# EAGLE library part NRF24L01-AS01-ML01IPX (library hqc-communication)
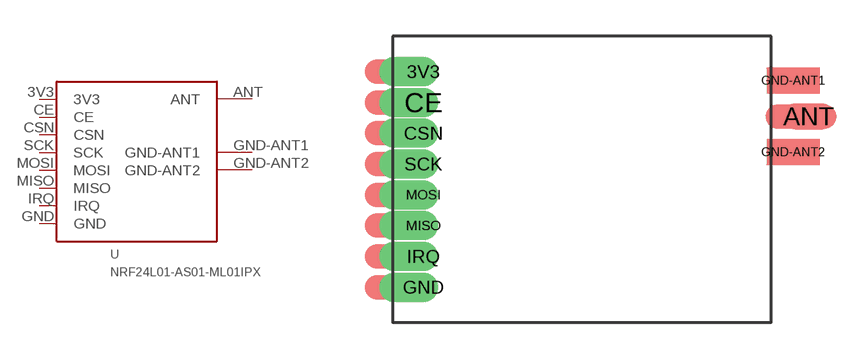
[diagram p1: symbol with the pads of AS01-ML01IPX; footprint AS01-ML01IPX]

Designator prefix -

## NRF24L01-AS01-ML01IPX  [AS01-ML01IPX]
3V3  3V3  pwr
ANT  ANT  out
CE  CE  in
CSN  CSN  in
GND  GND  pwr
GND-ANT1  GND-ANT1  pwr
GND-ANT2  GND-ANT2  pwr
IRQ  IRQ  out
MISO  MISO  out
MOSI  MOSI  in
SCK  SCK  in

## Footprint AS01-ML01IPX (pad centres in mm)
drill 0.7 pad 1.016 offset: 3V3 1.27,8.89; CE 1.27,7.62; CSN 1.27,6.35; GND 1.27,0; IRQ 1.27,1.27; MISO 1.27,2.54; MOSI 1.27,3.81; SCK 1.27,5.08
smd 2.184 x 1.067: ANT 17.145,7.045; GND-ANT1 16.51,8.52; GND-ANT2 16.51,5.57